# EAGLE library part AS-ITM-00349 (library tinycircuits)
IDC BOX HEADER 0.050 10 POS
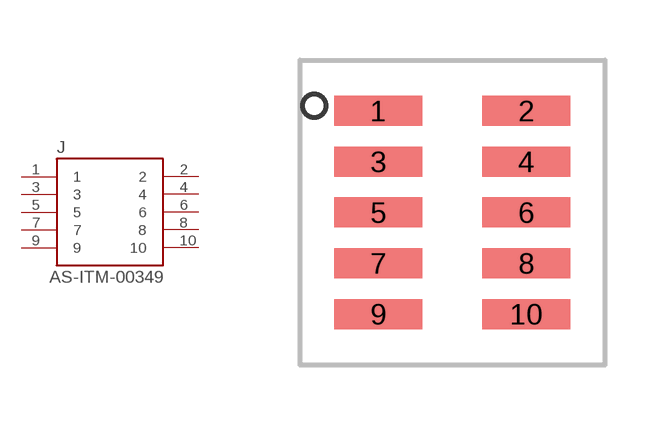
[diagram p137: symbol with the pads of 2X5_.05"_HEADER_SMT; footprint 2X5_.05"_HEADER_SMT]

Designator prefix J

## AS-ITM-00349 (PARTNO: AS-ITM-00349; VALUE: 3220-10-0300-00)  [2X5_.05"_HEADER_SMT]
1  1
2  2
3  3
4  4
5  5
6  6
7  7
8  8
9  9
10  10

## Footprint 2X5_.05"_HEADER_SMT (pad centres in mm)
smd 2.2 x 0.75: 1 -1.85,2.54; 2 1.85,2.54; 3 -1.85,1.27; 4 1.85,1.27; 5 -1.85,0; 6 1.85,0; 7 -1.85,-1.27; 8 1.85,-1.27; 9 -1.85,-2.54; 10 1.85,-2.54